# Altium schematic symbol library Schlib1.SchLib: 2 symbols
Pins are listed as number, name and electrical type; pins without a type are passive.

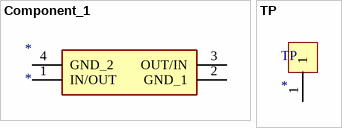
[diagram p0: symbols Component_1 to TP]

## Component_1
designator *
pins: 1 IN/OUT, 2 GND_1, 3 OUT/IN, 4 GND_2

## TP
designator TP
footprint TP
pins: 1